# Altium footprint library TPS690xx.PcbLib: 2 footprints
Each footprint in its own frame and in the unit in brackets; x right, y up, seen from the top. Pads: shape width x height; smd on the part's side, far side on the other; paste and mask are expansions set on the pad; w line width, h text height; cw(c..) or ccw(c..) is an arc to the next point about the centre after c.
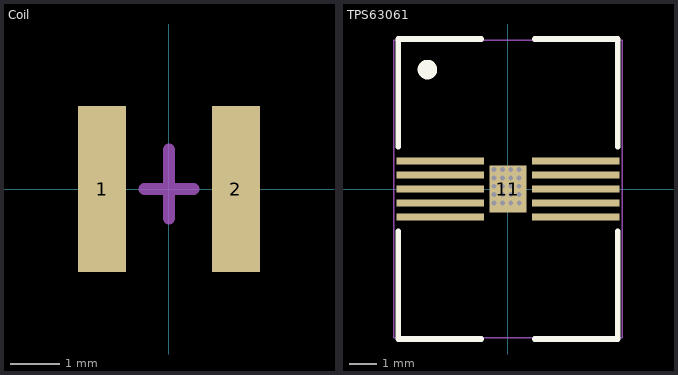
[diagram p0: the footprints below, top view; thin cyan lines are the x and y axes]

## Coil [mm]
pads (2):
  rect 0.98x3.4 smd: 1(-1.365,0) 2(1.365,0)
Mechanical 15:
  lines w0.254: -0.5,0 0.5,0 ; 0,-0.6 0,0.2 0,0.8
3D body "XFL4020.STEP": height 2.05, standoff -0.05, extent -2.25,-2.2 2.05,2.1

## TPS63061 [mm] "SON, 10-Leads, Body 10.30x7.50mm, Pitch 0.50mm, Thermal Pad 1.70x1.34mm, IPC High Density"
height 0.8
pads (11):
  rect 3.15x0.25 smd: 1(-2.445,1) 2(-2.445,0.5) 3(-2.445,0) 4(-2.445,-0.5) 5(-2.445,-1) 6(2.445,-1) 7(2.445,-0.5) 8(2.445,0) 9(2.445,0.5) 10(2.445,1)
  rect 1.34x1.7 smd: 11(0,0)
via 0.1,-0.2 diameter 0.27 hole 0.17
via -0.2,-0.2 diameter 0.27 hole 0.17
via 0.1,0.1 diameter 0.27 hole 0.17
via -0.2,0.1 diameter 0.27 hole 0.17
via 0.1,0.4 diameter 0.27 hole 0.17
via -0.2,0.4 diameter 0.27 hole 0.17
via -0.2,-0.5 diameter 0.27 hole 0.17
via -0.5,-0.5 diameter 0.27 hole 0.17
via -0.5,-0.2 diameter 0.27 hole 0.17
via -0.5,0.1 diameter 0.27 hole 0.17
via -0.5,0.4 diameter 0.27 hole 0.17
via 0.1,-0.5 diameter 0.27 hole 0.17
via 0.4,-0.5 diameter 0.27 hole 0.17
via 0.4,-0.2 diameter 0.27 hole 0.17
via 0.4,0.1 diameter 0.27 hole 0.17
via 0.4,0.4 diameter 0.27 hole 0.17
via 0.4,0.7 diameter 0.27 hole 0.17
via 0.1,0.7 diameter 0.27 hole 0.17
via -0.2,0.7 diameter 0.27 hole 0.17
via -0.5,0.7 diameter 0.27 hole 0.17
Top Overlay:
  circle w0.5: c-2.9,4.3 r0.1
  lines w0.2: -3.95,-1.525 -3.95,-5.4 -0.97,-5.4 ; -3.95,1.525 -3.95,5.4 -0.97,5.4 ; 0.97,-5.4 3.95,-5.4 3.95,-1.525 ; 0.97,5.4 3.95,5.4 3.95,1.525
Mechanical 15:
  lines w0.05: -4.105,-5.35 4.105,-5.35 4.105,5.35 -4.105,5.35 -4.105,-5.35
  lines w0.1: -0.5,0 0.5,0 ; 0,-0.5 0,0.5
3D body "10WSON.step": height 0.7, standoff 0.01, extent -1.505,-1.5 1.505,1.5